# EAGLE library part VLE-VI-201 (library Disp)
VL Electronics 2 Digit LCD seven segment display
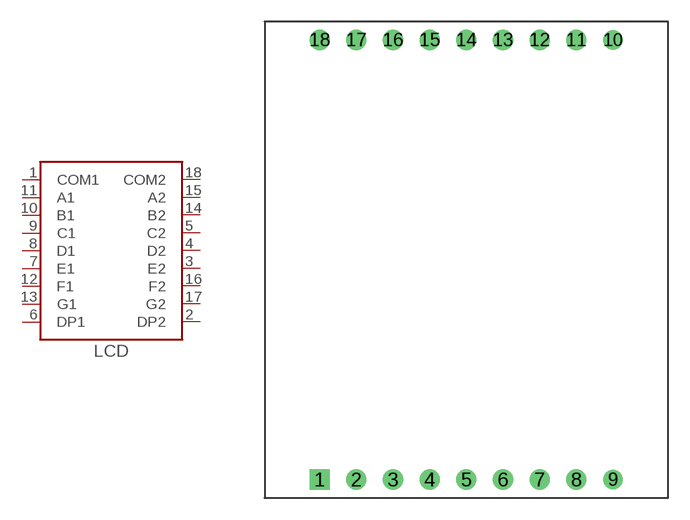
[diagram p3: symbol with the pads of VI-201; footprint VI-201]

Designator prefix LCD

## VLE-VI-201  [VI-201]
1  COM1
2  DP2
3  E2
4  D2
5  C2
6  DP1
7  E1
8  D1
9  C1
10  B1
11  A1
12  F1
13  G1
14  B2
15  A2
16  F2
17  G2
18  COM2

## Footprint VI-201 (pad centres in mm)
drill 0.889 square: 1 -10.16,-15.24
drill 0.889 round: 2 -7.62,-15.24; 3 -5.08,-15.24; 4 -2.54,-15.24; 5 0,-15.24; 6 2.54,-15.24; 7 5.08,-15.24; 8 7.62,-15.24; 11 7.62,15.24; 12 5.08,15.24; 13 2.54,15.24; 14 0,15.24; 15 -2.54,15.24; 16 -5.08,15.24; 17 -7.62,15.24; 18 -10.16,15.24
drill 0.813 round: 9 10.16,-15.24; 10 10.16,15.24